# EAGLE library part ALLSERIAL (library AllSerial)
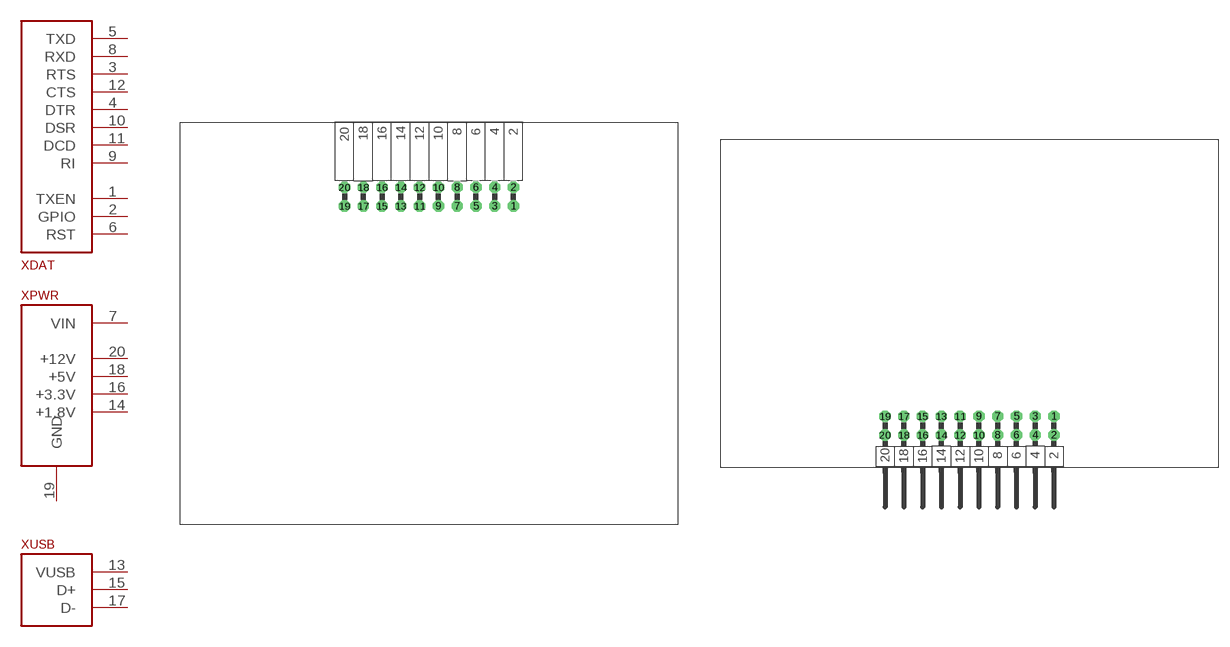
[diagram p0: symbol with the pads of MAIN-THT; footprints MAIN-THT, DAUGHTER-THT]

Designator prefix X; gates DAT=ALLSERIALDATA PWR=ALLSERIALSUP USB=ALLSERIALUSB

## ALLSERIALMM  [MAIN-THT]
1  DAT:TXEN
2  DAT:GPIO
3  DAT:RTS
4  DAT:DTR
5  DAT:TXD
6  DAT:RST
7  PWR:VIN
8  DAT:RXD
9  DAT:RI
10  DAT:DSR
11  DAT:DCD
12  DAT:CTS
13  USB:VUSB
14  PWR:+1.8V
15  USB:D+
16  PWR:+3.3V
17  USB:D-
18  PWR:+5V
19  PWR:GND
20  PWR:+12V

## ALLSERIALD  [DAUGHTER-THT]
Pads as for MAIN-THT

## Footprint MAIN-THT (pad centres in mm)
drill 1.016 octagon: 1 11.43,43.18; 2 11.43,45.72; 3 8.89,43.18; 4 8.89,45.72; 5 6.35,43.18; 6 6.35,45.72; 7 3.81,43.18; 8 3.81,45.72; 9 1.27,43.18; 10 1.27,45.72; 11 -1.27,43.18; 12 -1.27,45.72; 13 -3.81,43.18; 14 -3.81,45.72; 15 -6.35,43.18; 16 -6.35,45.72; 17 -8.89,43.18; 18 -8.89,45.72; 19 -11.43,43.18; 20 -11.43,45.72

## Footprint DAUGHTER-THT (pad centres in mm)
drill 1.016 octagon: 1 11.43,6.985; 2 11.43,4.445; 3 8.89,6.985; 4 8.89,4.445; 5 6.35,6.985; 6 6.35,4.445; 7 3.81,6.985; 8 3.81,4.445; 9 1.27,6.985; 10 1.27,4.445; 11 -1.27,6.985; 12 -1.27,4.445; 13 -3.81,6.985; 14 -3.81,4.445; 15 -6.35,6.985; 16 -6.35,4.445; 17 -8.89,6.985; 18 -8.89,4.445; 19 -11.43,6.985; 20 -11.43,4.445